# EAGLE library part TPS2561-Q1_DRC_10 (library Texas Instruments)
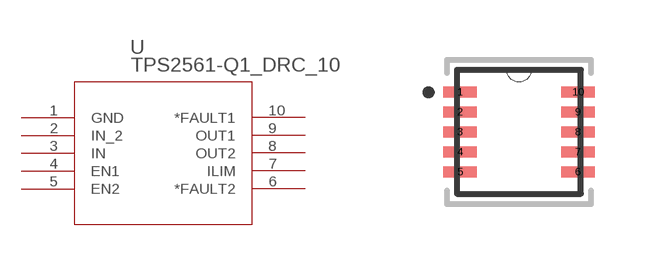
[diagram p27: symbol with the pads of DRC10_2P4X1P65; footprint DRC10_2P4X1P65]

Designator prefix U

## TPS2561-Q1_DRC_10 (DATASHEETURL: http://www.ti.com/lit/gpn/TPS2561-Q1; DESCRIPTION: Automotive Catalog Dual Channel Precision Adjustable Current-Limited Power Switches; FAMILY_NAME: USB POWER SWITCH; GENERIC_PART_NUMBER: TPS2561-Q1; INDUSTRY_STD_PKG_TYPE: SON; MANUFACTURER: Texas Instruments; MANUFACTURER_PART_NUMBER: tps2561-q1_drc_10; PACKAGE_DESIGNATOR: DRC; PIN_COUNT: 10; VENDOR: Texas Instruments)  [DRC10_2P4X1P65]
1  GND  pwr
2  IN_2  in
3  IN  in
4  EN1  in
5  EN2  in
6  *FAULT2  out
7  ILIM  out
8  OUT2  out
9  OUT1  out
10  *FAULT1  out

## Footprint DRC10_2P4X1P65 (pad centres in mm)
smd 0.838 x 0.279: 1 -1.475,1; 2 -1.475,0.5; 3 -1.475,0; 4 -1.475,-0.5; 5 -1.475,-1; 6 1.475,-1; 7 1.475,-0.5; 8 1.475,0; 9 1.475,0.5; 10 1.475,1